# Altium footprint library con-hirose-df13.PCBLIB: 58 footprints (part 4 of 4)
Each footprint in its own frame and in the unit in brackets; x right, y up, seen from the top. Pads: shape width x height; smd on the part's side, far side on the other; paste and mask are expansions set on the pad; w line width, h text height; cw(c..) or ccw(c..) is an arc to the next point about the centre after c.
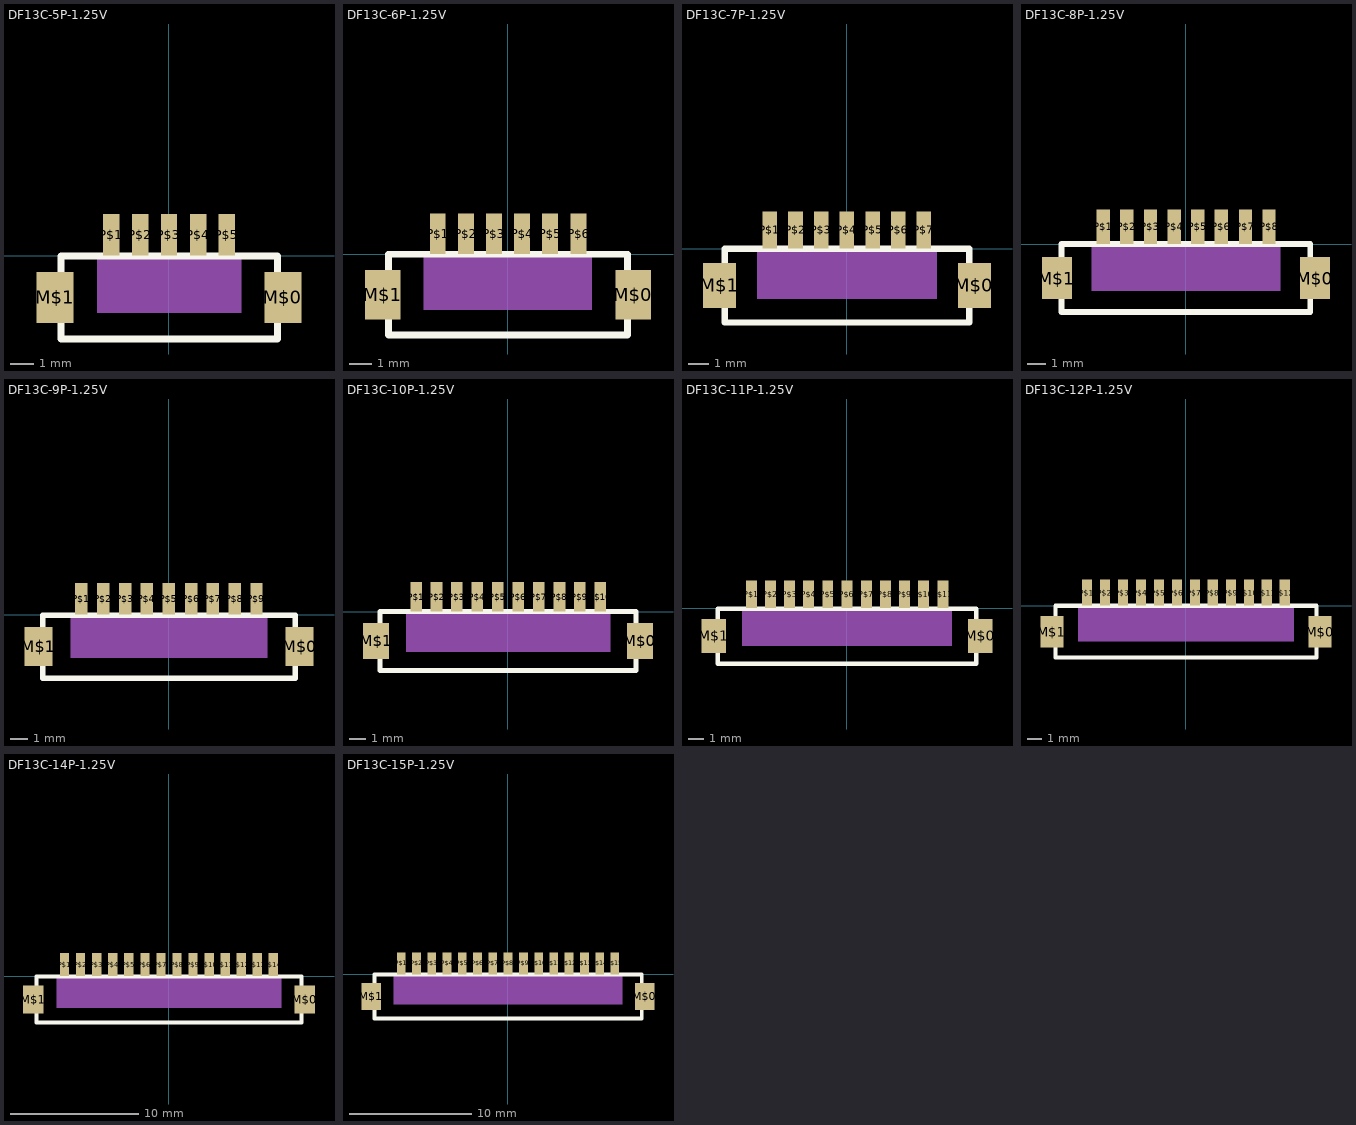
[diagram p3: the footprints below, top view; thin cyan lines are the x and y axes]

## DF13C-5P-1.25V [mil]
pads (7):
  rect 63x87 smd: M$0(195,-70.87) M$1(-194.88,-70.87)
  rect 28x71 smd: P$1(-98.43,36) P$2(-49.21,36) P$3(0,36) P$4(50,36) P$5(99,36)
Top Overlay:
  lines w12: -185.04,-142.13 186,-142.13 186,-0.39 -185.04,-0.39 -185.04,-142.13
  text "." at -161.42,61 h155
Mechanical 27:
  rectangle: -123.03,-97.24 124,-3.94

## DF13C-6P-1.25V [mil]
pads (8):
  rect 63x87 smd: M$0(220,-70.87) M$1(-219.49,-70.87)
  rect 28x71 smd: P$1(-123.03,36) P$2(-73.82,36) P$3(-24.61,36) P$4(25,36) P$5(74,36) P$6(124,36)
Top Overlay:
  lines w12: -209.65,-141.73 210,-141.73 210,0 -209.65,0 -209.65,-141.73
  text "." at -186.02,61 h155
Mechanical 27:
  rectangle: -147.64,-97.44 148,-3.94

## DF13C-7P-1.25V [mil]
pads (9):
  rect 63x87 smd: M$0(245,-70.87) M$1(-244.09,-70.87)
  rect 28x71 smd: P$1(-147.64,36) P$2(-98.43,36) P$3(-49.21,36) P$4(0,36) P$5(50,36) P$6(99,36) P$7(148,36)
Top Overlay:
  lines w12: -234.25,-142.13 235,-142.13 235,-0.39 -234.25,-0.39 -234.25,-142.13
  text "." at -210.63,61 h155
Mechanical 27:
  rectangle: -172.24,-97.24 173,-3.94

## DF13C-8P-1.25V [mil]
pads (10):
  rect 63x87 smd: M$0(269,-70.87) M$1(-268.7,-70.87)
  rect 28x71 smd: P$1(-172.24,36) P$2(-123.03,36) P$3(-73.82,36) P$4(-24.61,36) P$5(25,36) P$6(74,36) P$7(124,36) P$8(173,36)
Top Overlay:
  lines w12: -258.86,-141.73 259,-141.73 259,0 -258.86,0 -258.86,-141.73
  text "." at -235.24,61 h155
Mechanical 27:
  rectangle: -196.85,-97.44 197,-3.94

## DF13C-9P-1.25V [mil]
pads (11):
  rect 63x87 smd: M$0(294,-70.87) M$1(-293.31,-70.87)
  rect 28x71 smd: P$1(-196.85,36) P$2(-147.64,36) P$3(-98.43,36) P$4(-49.21,36) P$5(0,36) P$6(50,36) P$7(99,36) P$8(148,36) P$9(197,36)
Top Overlay:
  lines w12: -283.46,-142.13 284,-142.13 284,-0.39 -283.46,-0.39 -283.46,-142.13
  text "." at -259.84,61 h155
Mechanical 27:
  rectangle: -221.46,-97.24 222,-3.94

## DF13C-10P-1.25V [mil]
pads (12):
  rect 63x87 smd: M$0(318,-70.87) M$1(-317.91,-70.87)
  rect 28x71 smd: P$1(-221.46,36) P$2(-172.24,36) P$3(-123.03,36) P$4(-73.82,36) P$5(-24.61,36) P$6(25,36) P$7(74,36) P$8(124,36) P$9(173,36) P$10(222,36)
Top Overlay:
  lines w12: -308.07,-141.73 309,-141.73 309,0 -308.07,0 -308.07,-141.73
  text "." at -284.45,61 h155
Mechanical 27:
  rectangle: -246.06,-97.44 247,-3.94

## DF13C-11P-1.25V [mil]
pads (13):
  rect 63x87 smd: M$0(343,-70.87) M$1(-342.52,-70.87)
  rect 28x71 smd: P$1(-246.06,36) P$2(-196.85,36) P$3(-147.64,36) P$4(-98.43,36) P$5(-49.21,36) P$6(0,36) P$7(50,36) P$8(99,36) P$9(148,36) P$10(197,36) P$11(247,36)
Top Overlay:
  lines w12: -332.68,-142.13 333,-142.13 333,-0.39 -332.68,-0.39 -332.68,-142.13
  text "." at -309.06,61 h155
Mechanical 27:
  rectangle: -270.67,-97.24 271,-3.94

## DF13C-12P-1.25V [mil]
pads (14):
  rect 63x87 smd: M$0(368,-70.87) M$1(-367.13,-70.87)
  rect 28x71 smd: P$1(-270.67,36) P$2(-221.46,36) P$3(-172.24,36) P$4(-123.03,36) P$5(-73.82,36) P$6(-24.61,36) P$7(25,36) P$8(74,36) P$9(124,36) P$10(173,36) P$11(222,36) P$12(271,36)
Top Overlay:
  lines w12: -357.28,-141.73 358,-141.73 358,0 -357.28,0 -357.28,-141.73
  text "." at -333.66,61 h155
Mechanical 27:
  rectangle: -295.28,-97.44 296,-3.94

## DF13C-14P-1.25V [mil]
pads (16):
  rect 63x87 smd: M$0(417,-70.87) M$1(-416.34,-70.87)
  rect 28x71 smd: P$1(-319.88,36) P$2(-270.67,36) P$3(-221.46,36) P$4(-172.24,36) P$5(-123.03,36) P$6(-73.82,36) P$7(-24.61,36) P$8(25,36) P$9(74,36) P$10(124,36) P$11(173,36) P$12(222,36) P$13(271,36) P$14(320,36)
Top Overlay:
  lines w12: -406.5,-141.73 407,-141.73 407,0 -406.5,0 -406.5,-141.73
  text "." at -382.87,61 h155
Mechanical 27:
  rectangle: -344.49,-97.44 345,-3.94

## DF13C-15P-1.25V [mil]
pads (17):
  rect 63x87 smd: M$0(441,-70.87) M$1(-440.94,-70.87)
  rect 28x71 smd: P$1(-344.49,36) P$2(-295.28,36) P$3(-246.06,36) P$4(-196.85,36) P$5(-147.64,36) P$6(-98.43,36) P$7(-49.21,36) P$8(0,36) P$9(50,36) P$10(99,36) P$11(148,36) P$12(197,36) P$13(247,36) P$14(296,36) P$15(345,36)
Top Overlay:
  lines w12: -431.1,-142.13 432,-142.13 432,-0.39 -431.1,-0.39 -431.1,-142.13
  text "." at -407.48,61 h155
Mechanical 27:
  rectangle: -369.09,-97.24 370,-3.94